# Altium schematic symbol library MCU_ST_STM32F3.SchLib: 126 symbols (part 3 of 3)
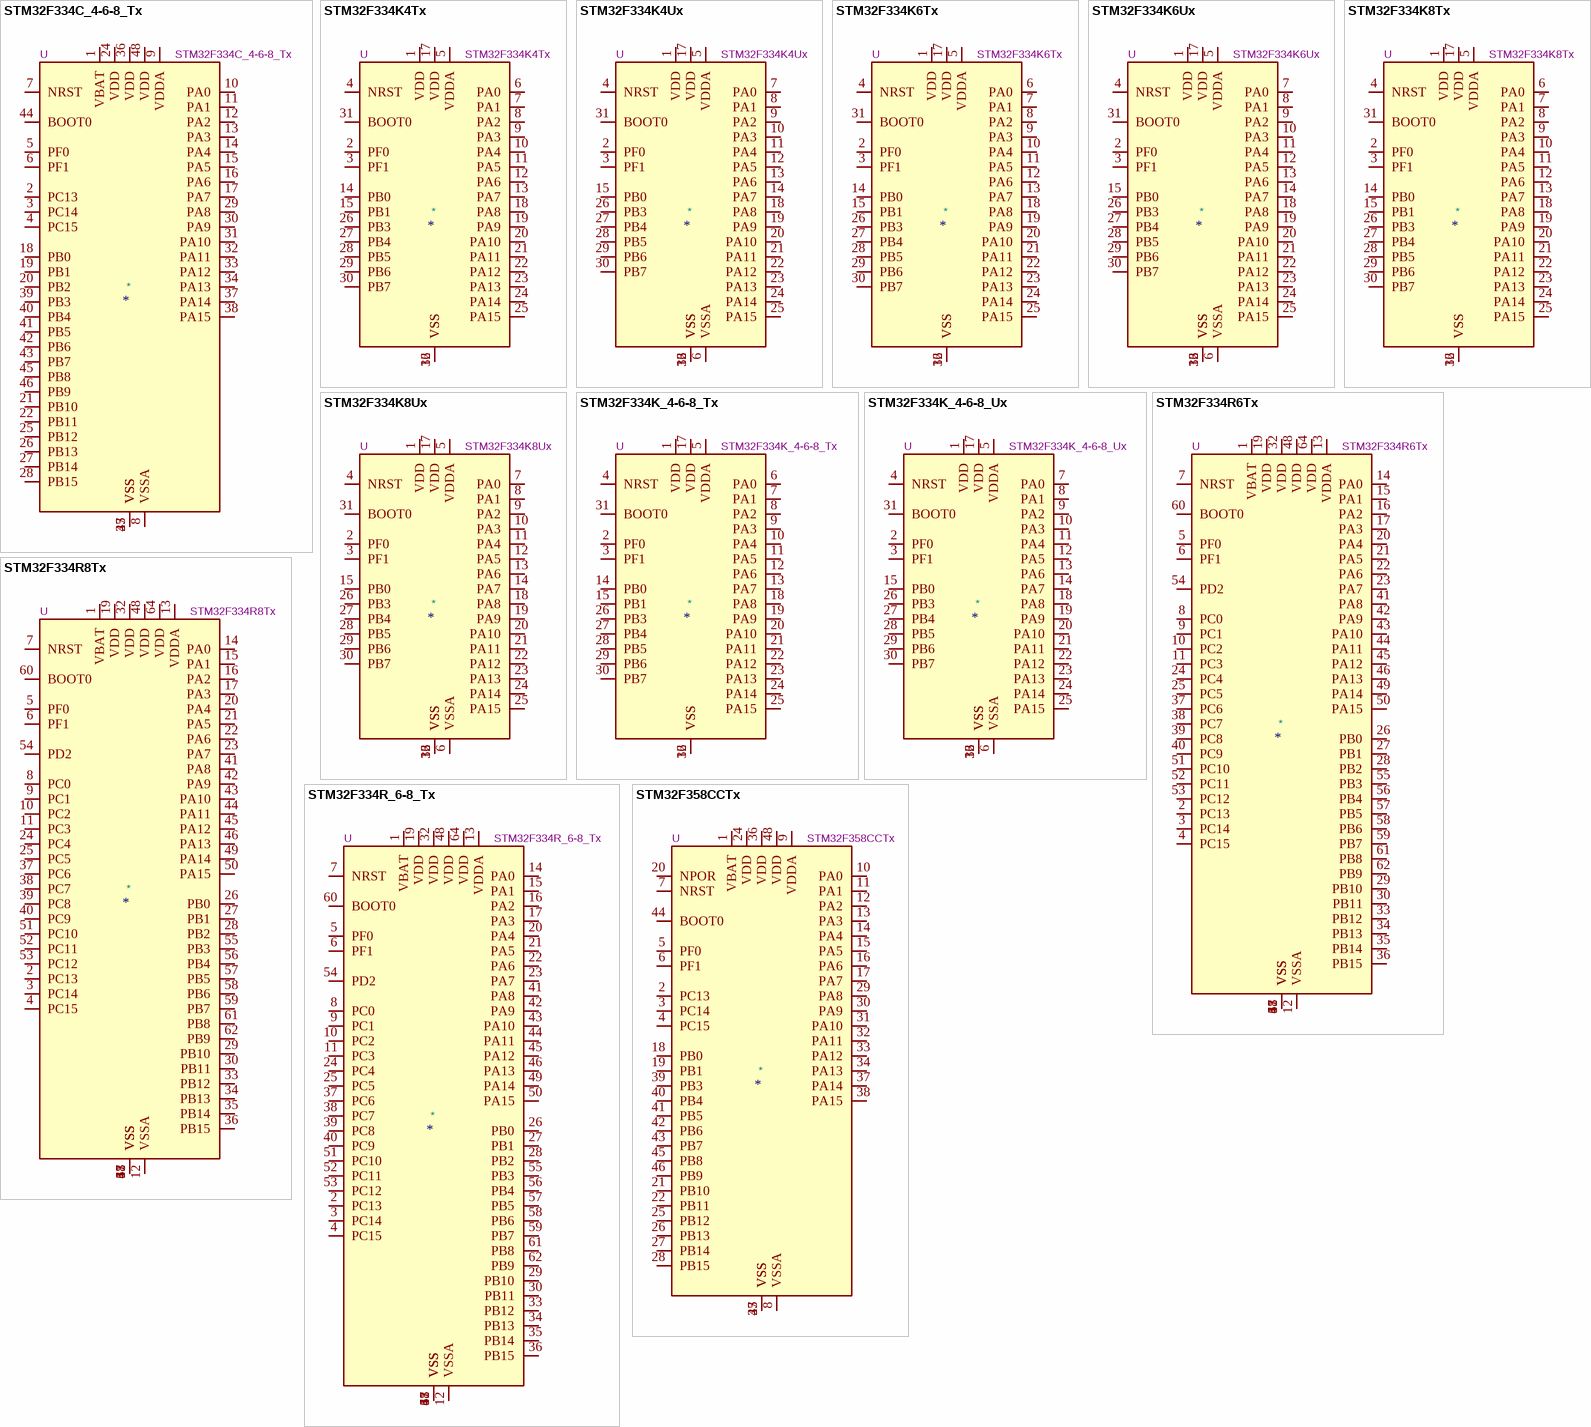
[diagram p17: symbols STM32F334C_4-6-8_Tx to STM32F358CCTx]

## STM32F334K8Ux
designator *  value STM32F334K8Ux  Reference: U
STMicroelectronics Arm Cortex-M4 MCU, 64KB flash, 16KB RAM, 72 MHz, 2.0-3.6V, 24 GPIO, UFQFPN32; ki_keywords: Arm Cortex-M4 STM32F3 STM32F334; ki_fp_filters: QFN*1EP*5x5mm*P0.5mm*; Footprint: Package_DFN_QFN:QFN-32-1EP_5x5mm_P0.5mm_EP3.45x3.45mm; Datasheet: https://www.st.com/resource/en/datasheet/stm32f334k8.pdf; Description_: STMicroelectronics Arm Cortex-M4 MCU, 64KB flash, 16KB RAM, 72 MHz, 2.0-3.6V, 24 GPIO, UFQFPN32
pins: 1 VDD, 2 PF0, 3 PF1, 4 NRST, 5 VDDA, 6 VSSA, 7 PA0, 8 PA1, 9 PA2, 10 PA3, 11 PA4, 12 PA5, 13 PA6, 14 PA7, 15 PB0, 16 VSS, 17 VDD, 18 PA8, 19 PA9, 20 PA10, 21 PA11, 22 PA12, 23 PA13, 24 PA14, 25 PA15, 26 PB3, 27 PB4, 28 PB5, 29 PB6, 30 PB7, 31 BOOT0, 32 VSS, 33 VSS

## STM32F334K_4-6-8_Tx
designator *  value STM32F334K_4-6-8_Tx  Reference: U
STMicroelectronics Arm Cortex-M4 MCU, 16-64KB flash, 16KB RAM, 72 MHz, 2.0-3.6V, 25 GPIO, LQFP32; ki_keywords: Arm Cortex-M4 STM32F3 STM32F334; ki_fp_filters: LQFP*7x7mm*P0.8mm*; Footprint: Package_QFP:LQFP-32_7x7mm_P0.8mm; Datasheet: https://www.st.com/resource/en/datasheet/stm32f334k4.pdf; Description_: STMicroelectronics Arm Cortex-M4 MCU, 16-64KB flash, 16KB RAM, 72 MHz, 2.0-3.6V, 25 GPIO, LQFP32
pins: 1 VDD, 2 PF0, 3 PF1, 4 NRST, 5 VDDA, 6 PA0, 7 PA1, 8 PA2, 9 PA3, 10 PA4, 11 PA5, 12 PA6, 13 PA7, 14 PB0, 15 PB1, 16 VSS, 17 VDD, 18 PA8, 19 PA9, 20 PA10, 21 PA11, 22 PA12, 23 PA13, 24 PA14, 25 PA15, 26 PB3, 27 PB4, 28 PB5, 29 PB6, 30 PB7, 31 BOOT0, 32 VSS

## STM32F334K_4-6-8_Ux
designator *  value STM32F334K_4-6-8_Ux  Reference: U
STMicroelectronics Arm Cortex-M4 MCU, 16-64KB flash, 16KB RAM, 72 MHz, 2.0-3.6V, 24 GPIO, UFQFPN32; ki_keywords: Arm Cortex-M4 STM32F3 STM32F334; ki_fp_filters: QFN*1EP*5x5mm*P0.5mm*; Footprint: Package_DFN_QFN:QFN-32-1EP_5x5mm_P0.5mm_EP3.45x3.45mm; Datasheet: https://www.st.com/resource/en/datasheet/stm32f334k4.pdf; Description_: STMicroelectronics Arm Cortex-M4 MCU, 16-64KB flash, 16KB RAM, 72 MHz, 2.0-3.6V, 24 GPIO, UFQFPN32
pins: 1 VDD, 2 PF0, 3 PF1, 4 NRST, 5 VDDA, 6 VSSA, 7 PA0, 8 PA1, 9 PA2, 10 PA3, 11 PA4, 12 PA5, 13 PA6, 14 PA7, 15 PB0, 16 VSS, 17 VDD, 18 PA8, 19 PA9, 20 PA10, 21 PA11, 22 PA12, 23 PA13, 24 PA14, 25 PA15, 26 PB3, 27 PB4, 28 PB5, 29 PB6, 30 PB7, 31 BOOT0, 32 VSS, 33 VSS

## STM32F334R6Tx
designator *  value STM32F334R6Tx  Reference: U
STMicroelectronics Arm Cortex-M4 MCU, 32KB flash, 16KB RAM, 72 MHz, 2.0-3.6V, 51 GPIO, LQFP64; ki_keywords: Arm Cortex-M4 STM32F3 STM32F334; ki_fp_filters: LQFP*10x10mm*P0.5mm*; Footprint: Package_QFP:LQFP-64_10x10mm_P0.5mm; Datasheet: https://www.st.com/resource/en/datasheet/stm32f334r6.pdf; Description_: STMicroelectronics Arm Cortex-M4 MCU, 32KB flash, 16KB RAM, 72 MHz, 2.0-3.6V, 51 GPIO, LQFP64
pins: 1 VBAT, 2 PC13, 3 PC14, 4 PC15, 5 PF0, 6 PF1, 7 NRST, 8 PC0, 9 PC1, 10 PC2, 11 PC3, 12 VSSA, 13 VDDA, 14 PA0, 15 PA1, 16 PA2, 17 PA3, 18 VSS, 19 VDD, 20 PA4, 21 PA5, 22 PA6, 23 PA7, 24 PC4, 25 PC5, 26 PB0, 27 PB1, 28 PB2, 29 PB10, 30 PB11, 31 VSS, 32 VDD, 33 PB12, 34 PB13, 35 PB14, 36 PB15, 37 PC6, 38 PC7, 39 PC8, 40 PC9, 41 PA8, 42 PA9, 43 PA10, 44 PA11, 45 PA12, 46 PA13, 47 VSS, 48 VDD, 49 PA14, 50 PA15, 51 PC10, 52 PC11, 53 PC12, 54 PD2, 55 PB3, 56 PB4, 57 PB5, 58 PB6, 59 PB7, 60 BOOT0, 61 PB8, 62 PB9, 63 VSS, 64 VDD

## STM32F334R8Tx
designator *  value STM32F334R8Tx  Reference: U
STMicroelectronics Arm Cortex-M4 MCU, 64KB flash, 16KB RAM, 72 MHz, 2.0-3.6V, 51 GPIO, LQFP64; ki_keywords: Arm Cortex-M4 STM32F3 STM32F334; ki_fp_filters: LQFP*10x10mm*P0.5mm*; Footprint: Package_QFP:LQFP-64_10x10mm_P0.5mm; Datasheet: https://www.st.com/resource/en/datasheet/stm32f334r8.pdf; Description_: STMicroelectronics Arm Cortex-M4 MCU, 64KB flash, 16KB RAM, 72 MHz, 2.0-3.6V, 51 GPIO, LQFP64
pins: 1 VBAT, 2 PC13, 3 PC14, 4 PC15, 5 PF0, 6 PF1, 7 NRST, 8 PC0, 9 PC1, 10 PC2, 11 PC3, 12 VSSA, 13 VDDA, 14 PA0, 15 PA1, 16 PA2, 17 PA3, 18 VSS, 19 VDD, 20 PA4, 21 PA5, 22 PA6, 23 PA7, 24 PC4, 25 PC5, 26 PB0, 27 PB1, 28 PB2, 29 PB10, 30 PB11, 31 VSS, 32 VDD, 33 PB12, 34 PB13, 35 PB14, 36 PB15, 37 PC6, 38 PC7, 39 PC8, 40 PC9, 41 PA8, 42 PA9, 43 PA10, 44 PA11, 45 PA12, 46 PA13, 47 VSS, 48 VDD, 49 PA14, 50 PA15, 51 PC10, 52 PC11, 53 PC12, 54 PD2, 55 PB3, 56 PB4, 57 PB5, 58 PB6, 59 PB7, 60 BOOT0, 61 PB8, 62 PB9, 63 VSS, 64 VDD

## STM32F334R_6-8_Tx
designator *  value STM32F334R_6-8_Tx  Reference: U
STMicroelectronics Arm Cortex-M4 MCU, 32-64KB flash, 16KB RAM, 72 MHz, 2.0-3.6V, 51 GPIO, LQFP64; ki_keywords: Arm Cortex-M4 STM32F3 STM32F334; ki_fp_filters: LQFP*10x10mm*P0.5mm*; Footprint: Package_QFP:LQFP-64_10x10mm_P0.5mm; Datasheet: https://www.st.com/resource/en/datasheet/stm32f334r6.pdf; Description_: STMicroelectronics Arm Cortex-M4 MCU, 32-64KB flash, 16KB RAM, 72 MHz, 2.0-3.6V, 51 GPIO, LQFP64
pins: 1 VBAT, 2 PC13, 3 PC14, 4 PC15, 5 PF0, 6 PF1, 7 NRST, 8 PC0, 9 PC1, 10 PC2, 11 PC3, 12 VSSA, 13 VDDA, 14 PA0, 15 PA1, 16 PA2, 17 PA3, 18 VSS, 19 VDD, 20 PA4, 21 PA5, 22 PA6, 23 PA7, 24 PC4, 25 PC5, 26 PB0, 27 PB1, 28 PB2, 29 PB10, 30 PB11, 31 VSS, 32 VDD, 33 PB12, 34 PB13, 35 PB14, 36 PB15, 37 PC6, 38 PC7, 39 PC8, 40 PC9, 41 PA8, 42 PA9, 43 PA10, 44 PA11, 45 PA12, 46 PA13, 47 VSS, 48 VDD, 49 PA14, 50 PA15, 51 PC10, 52 PC11, 53 PC12, 54 PD2, 55 PB3, 56 PB4, 57 PB5, 58 PB6, 59 PB7, 60 BOOT0, 61 PB8, 62 PB9, 63 VSS, 64 VDD

## STM32F358CCTx
designator *  value STM32F358CCTx  Reference: U
STMicroelectronics Arm Cortex-M4 MCU, 256KB flash, 48KB RAM, 72 MHz, 1.65-1.95V, 36 GPIO, LQFP48; ki_keywords: Arm Cortex-M4 STM32F3 STM32F3x8; ki_fp_filters: LQFP*7x7mm*P0.5mm*; Footprint: Package_QFP:LQFP-48_7x7mm_P0.5mm; Datasheet: https://www.st.com/resource/en/datasheet/stm32f358cc.pdf; Description_: STMicroelectronics Arm Cortex-M4 MCU, 256KB flash, 48KB RAM, 72 MHz, 1.65-1.95V, 36 GPIO, LQFP48
pins: 1 VBAT, 2 PC13, 3 PC14, 4 PC15, 5 PF0, 6 PF1, 7 NRST, 8 VSSA, 9 VDDA, 10 PA0, 11 PA1, 12 PA2, 13 PA3, 14 PA4, 15 PA5, 16 PA6, 17 PA7, 18 PB0, 19 PB1, 20 NPOR, 21 PB10, 22 PB11, 23 VSS, 24 VDD, 25 PB12, 26 PB13, 27 PB14, 28 PB15, 29 PA8, 30 PA9, 31 PA10, 32 PA11, 33 PA12, 34 PA13, 35 VSS, 36 VDD, 37 PA14, 38 PA15, 39 PB3, 40 PB4, 41 PB5, 42 PB6, 43 PB7, 44 BOOT0, 45 PB8, 46 PB9, 47 VSS, 48 VDD

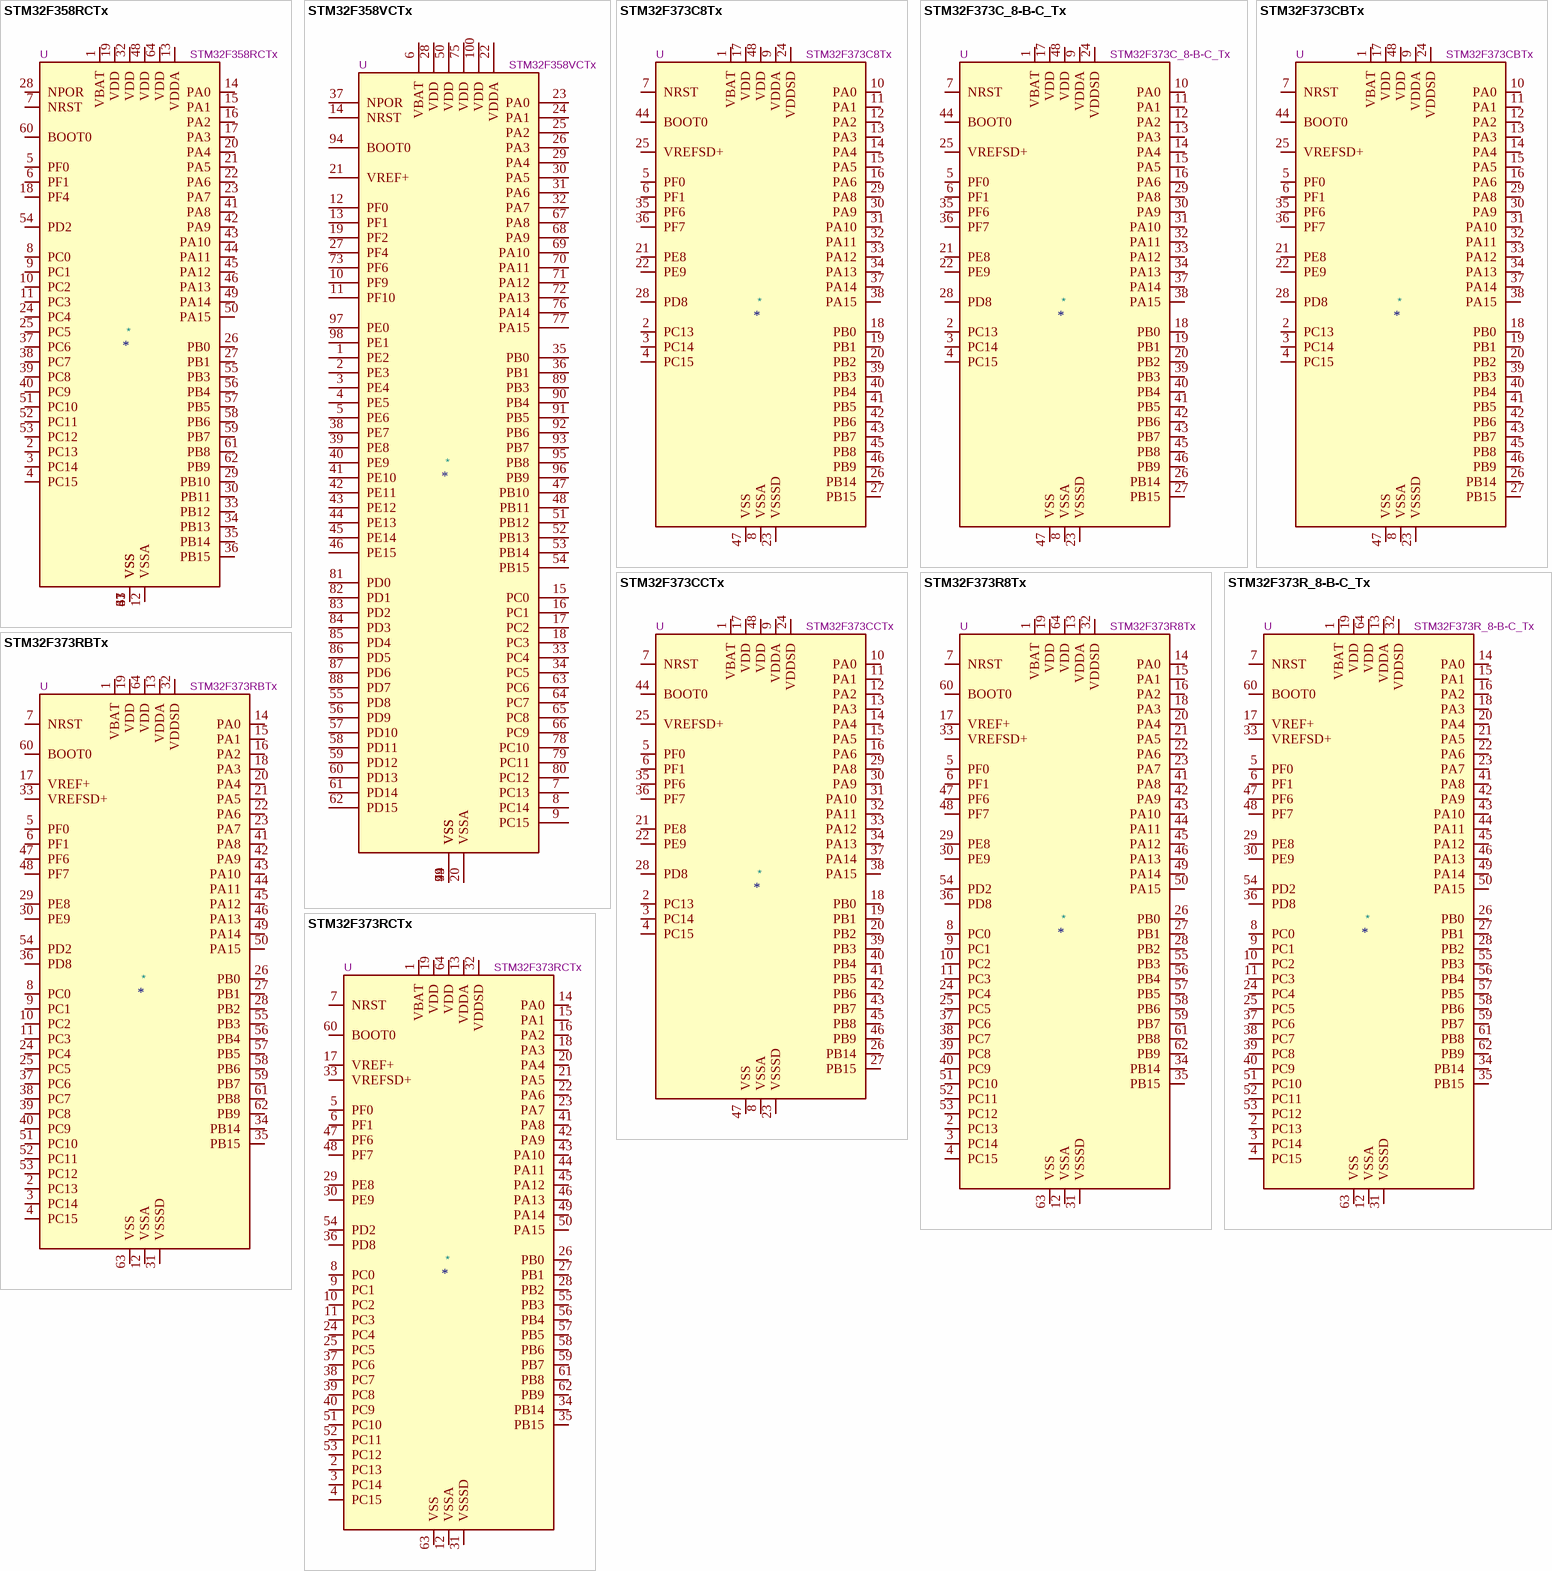
[diagram p12: symbols STM32F358RCTx to STM32F373RCTx]

## STM32F358RCTx
designator *  value STM32F358RCTx  Reference: U
STMicroelectronics Arm Cortex-M4 MCU, 256KB flash, 48KB RAM, 72 MHz, 1.65-1.95V, 51 GPIO, LQFP64; ki_keywords: Arm Cortex-M4 STM32F3 STM32F3x8; ki_fp_filters: LQFP*10x10mm*P0.5mm*; Footprint: Package_QFP:LQFP-64_10x10mm_P0.5mm; Datasheet: https://www.st.com/resource/en/datasheet/stm32f358rc.pdf; Description_: STMicroelectronics Arm Cortex-M4 MCU, 256KB flash, 48KB RAM, 72 MHz, 1.65-1.95V, 51 GPIO, LQFP64
pins: 1 VBAT, 2 PC13, 3 PC14, 4 PC15, 5 PF0, 6 PF1, 7 NRST, 8 PC0, 9 PC1, 10 PC2, 11 PC3, 12 VSSA, 13 VDDA, 14 PA0, 15 PA1, 16 PA2, 17 PA3, 18 PF4, 19 VDD, 20 PA4, 21 PA5, 22 PA6, 23 PA7, 24 PC4, 25 PC5, 26 PB0, 27 PB1, 28 NPOR, 29 PB10, 30 PB11, 31 VSS, 32 VDD, 33 PB12, 34 PB13, 35 PB14, 36 PB15, 37 PC6, 38 PC7, 39 PC8, 40 PC9, 41 PA8, 42 PA9, 43 PA10, 44 PA11, 45 PA12, 46 PA13, 47 VSS, 48 VDD, 49 PA14, 50 PA15, 51 PC10, 52 PC11, 53 PC12, 54 PD2, 55 PB3, 56 PB4, 57 PB5, 58 PB6, 59 PB7, 60 BOOT0, 61 PB8, 62 PB9, 63 VSS, 64 VDD

## STM32F358VCTx
designator *  value STM32F358VCTx  Reference: U
STMicroelectronics Arm Cortex-M4 MCU, 256KB flash, 48KB RAM, 72 MHz, 1.65-1.95V, 86 GPIO, LQFP100; ki_keywords: Arm Cortex-M4 STM32F3 STM32F3x8; ki_fp_filters: LQFP*14x14mm*P0.5mm*; Footprint: Package_QFP:LQFP-100_14x14mm_P0.5mm; Datasheet: https://www.st.com/resource/en/datasheet/stm32f358vc.pdf; Description_: STMicroelectronics Arm Cortex-M4 MCU, 256KB flash, 48KB RAM, 72 MHz, 1.65-1.95V, 86 GPIO, LQFP100
pins: 1 PE2, 2 PE3, 3 PE4, 4 PE5, 5 PE6, 6 VBAT, 7 PC13, 8 PC14, 9 PC15, 10 PF9, 11 PF10, 12 PF0, 13 PF1, 14 NRST, 15 PC0, 16 PC1, 17 PC2, 18 PC3, 19 PF2, 20 VSSA, 21 VREF+, 22 VDDA, 23 PA0, 24 PA1, 25 PA2, 26 PA3, 27 PF4, 28 VDD, 29 PA4, 30 PA5, 31 PA6, 32 PA7, 33 PC4, 34 PC5, 35 PB0, 36 PB1, 37 NPOR, 38 PE7, 39 PE8, 40 PE9, 41 PE10, 42 PE11, 43 PE12, 44 PE13, 45 PE14, 46 PE15, 47 PB10, 48 PB11, 49 VSS, 50 VDD, 51 PB12, 52 PB13, 53 PB14, 54 PB15, 55 PD8, 56 PD9, 57 PD10, 58 PD11, 59 PD12, 60 PD13, 61 PD14, 62 PD15, 63 PC6, 64 PC7, 65 PC8, 66 PC9, 67 PA8, 68 PA9, 69 PA10, 70 PA11, 71 PA12, 72 PA13, 73 PF6, 74 VSS, 75 VDD, 76 PA14, 77 PA15, 78 PC10, 79 PC11, 80 PC12, 81 PD0, 82 PD1, 83 PD2, 84 PD3, 85 PD4, 86 PD5, 87 PD6, 88 PD7, 89 PB3, 90 PB4, 91 PB5, 92 PB6, 93 PB7, 94 BOOT0, 95 PB8, 96 PB9, 97 PE0, 98 PE1, 99 VSS, 100 VDD

## STM32F373C8Tx
designator *  value STM32F373C8Tx  Reference: U
STMicroelectronics Arm Cortex-M4 MCU, 64KB flash, 16KB RAM, 72 MHz, 2.0-3.6V, 37 GPIO, LQFP48; ki_keywords: Arm Cortex-M4 STM32F3 STM32F373; ki_fp_filters: LQFP*7x7mm*P0.5mm*; Footprint: Package_QFP:LQFP-48_7x7mm_P0.5mm; Datasheet: https://www.st.com/resource/en/datasheet/stm32f373c8.pdf; Description_: STMicroelectronics Arm Cortex-M4 MCU, 64KB flash, 16KB RAM, 72 MHz, 2.0-3.6V, 37 GPIO, LQFP48
pins: 1 VBAT, 2 PC13, 3 PC14, 4 PC15, 5 PF0, 6 PF1, 7 NRST, 8 VSSA, 9 VDDA, 10 PA0, 11 PA1, 12 PA2, 13 PA3, 14 PA4, 15 PA5, 16 PA6, 17 VDD, 18 PB0, 19 PB1, 20 PB2, 21 PE8, 22 PE9, 23 VSSSD, 24 VDDSD, 25 VREFSD+, 26 PB14, 27 PB15, 28 PD8, 29 PA8, 30 PA9, 31 PA10, 32 PA11, 33 PA12, 34 PA13, 35 PF6, 36 PF7, 37 PA14, 38 PA15, 39 PB3, 40 PB4, 41 PB5, 42 PB6, 43 PB7, 44 BOOT0, 45 PB8, 46 PB9, 47 VSS, 48 VDD

## STM32F373C_8-B-C_Tx
designator *  value STM32F373C_8-B-C_Tx  Reference: U
STMicroelectronics Arm Cortex-M4 MCU, 64-256KB flash, 16-32KB RAM, 72 MHz, 2.0-3.6V, 37 GPIO, LQFP48; ki_keywords: Arm Cortex-M4 STM32F3 STM32F373; ki_fp_filters: LQFP*7x7mm*P0.5mm*; Footprint: Package_QFP:LQFP-48_7x7mm_P0.5mm; Datasheet: https://www.st.com/resource/en/datasheet/stm32f373c8.pdf; Description_: STMicroelectronics Arm Cortex-M4 MCU, 64-256KB flash, 16-32KB RAM, 72 MHz, 2.0-3.6V, 37 GPIO, LQFP48
pins: 1 VBAT, 2 PC13, 3 PC14, 4 PC15, 5 PF0, 6 PF1, 7 NRST, 8 VSSA, 9 VDDA, 10 PA0, 11 PA1, 12 PA2, 13 PA3, 14 PA4, 15 PA5, 16 PA6, 17 VDD, 18 PB0, 19 PB1, 20 PB2, 21 PE8, 22 PE9, 23 VSSSD, 24 VDDSD, 25 VREFSD+, 26 PB14, 27 PB15, 28 PD8, 29 PA8, 30 PA9, 31 PA10, 32 PA11, 33 PA12, 34 PA13, 35 PF6, 36 PF7, 37 PA14, 38 PA15, 39 PB3, 40 PB4, 41 PB5, 42 PB6, 43 PB7, 44 BOOT0, 45 PB8, 46 PB9, 47 VSS, 48 VDD

## STM32F373CBTx
designator *  value STM32F373CBTx  Reference: U
STMicroelectronics Arm Cortex-M4 MCU, 128KB flash, 24KB RAM, 72 MHz, 2.0-3.6V, 37 GPIO, LQFP48; ki_keywords: Arm Cortex-M4 STM32F3 STM32F373; ki_fp_filters: LQFP*7x7mm*P0.5mm*; Footprint: Package_QFP:LQFP-48_7x7mm_P0.5mm; Datasheet: https://www.st.com/resource/en/datasheet/stm32f373cb.pdf; Description_: STMicroelectronics Arm Cortex-M4 MCU, 128KB flash, 24KB RAM, 72 MHz, 2.0-3.6V, 37 GPIO, LQFP48
pins: 1 VBAT, 2 PC13, 3 PC14, 4 PC15, 5 PF0, 6 PF1, 7 NRST, 8 VSSA, 9 VDDA, 10 PA0, 11 PA1, 12 PA2, 13 PA3, 14 PA4, 15 PA5, 16 PA6, 17 VDD, 18 PB0, 19 PB1, 20 PB2, 21 PE8, 22 PE9, 23 VSSSD, 24 VDDSD, 25 VREFSD+, 26 PB14, 27 PB15, 28 PD8, 29 PA8, 30 PA9, 31 PA10, 32 PA11, 33 PA12, 34 PA13, 35 PF6, 36 PF7, 37 PA14, 38 PA15, 39 PB3, 40 PB4, 41 PB5, 42 PB6, 43 PB7, 44 BOOT0, 45 PB8, 46 PB9, 47 VSS, 48 VDD

## STM32F373CCTx
designator *  value STM32F373CCTx  Reference: U
STMicroelectronics Arm Cortex-M4 MCU, 256KB flash, 32KB RAM, 72 MHz, 2.0-3.6V, 37 GPIO, LQFP48; ki_keywords: Arm Cortex-M4 STM32F3 STM32F373; ki_fp_filters: LQFP*7x7mm*P0.5mm*; Footprint: Package_QFP:LQFP-48_7x7mm_P0.5mm; Datasheet: https://www.st.com/resource/en/datasheet/stm32f373cc.pdf; Description_: STMicroelectronics Arm Cortex-M4 MCU, 256KB flash, 32KB RAM, 72 MHz, 2.0-3.6V, 37 GPIO, LQFP48
pins: 1 VBAT, 2 PC13, 3 PC14, 4 PC15, 5 PF0, 6 PF1, 7 NRST, 8 VSSA, 9 VDDA, 10 PA0, 11 PA1, 12 PA2, 13 PA3, 14 PA4, 15 PA5, 16 PA6, 17 VDD, 18 PB0, 19 PB1, 20 PB2, 21 PE8, 22 PE9, 23 VSSSD, 24 VDDSD, 25 VREFSD+, 26 PB14, 27 PB15, 28 PD8, 29 PA8, 30 PA9, 31 PA10, 32 PA11, 33 PA12, 34 PA13, 35 PF6, 36 PF7, 37 PA14, 38 PA15, 39 PB3, 40 PB4, 41 PB5, 42 PB6, 43 PB7, 44 BOOT0, 45 PB8, 46 PB9, 47 VSS, 48 VDD

## STM32F373R8Tx
designator *  value STM32F373R8Tx  Reference: U
STMicroelectronics Arm Cortex-M4 MCU, 64KB flash, 16KB RAM, 72 MHz, 2.0-3.6V, 52 GPIO, LQFP64; ki_keywords: Arm Cortex-M4 STM32F3 STM32F373; ki_fp_filters: LQFP*10x10mm*P0.5mm*; Footprint: Package_QFP:LQFP-64_10x10mm_P0.5mm; Datasheet: https://www.st.com/resource/en/datasheet/stm32f373r8.pdf; Description_: STMicroelectronics Arm Cortex-M4 MCU, 64KB flash, 16KB RAM, 72 MHz, 2.0-3.6V, 52 GPIO, LQFP64
pins: 1 VBAT, 2 PC13, 3 PC14, 4 PC15, 5 PF0, 6 PF1, 7 NRST, 8 PC0, 9 PC1, 10 PC2, 11 PC3, 12 VSSA, 13 VDDA, 14 PA0, 15 PA1, 16 PA2, 17 VREF+, 18 PA3, 19 VDD, 20 PA4, 21 PA5, 22 PA6, 23 PA7, 24 PC4, 25 PC5, 26 PB0, 27 PB1, 28 PB2, 29 PE8, 30 PE9, 31 VSSSD, 32 VDDSD, 33 VREFSD+, 34 PB14, 35 PB15, 36 PD8, 37 PC6, 38 PC7, 39 PC8, 40 PC9, 41 PA8, 42 PA9, 43 PA10, 44 PA11, 45 PA12, 46 PA13, 47 PF6, 48 PF7, 49 PA14, 50 PA15, 51 PC10, 52 PC11, 53 PC12, 54 PD2, 55 PB3, 56 PB4, 57 PB5, 58 PB6, 59 PB7, 60 BOOT0, 61 PB8, 62 PB9, 63 VSS, 64 VDD

## STM32F373R_8-B-C_Tx
designator *  value STM32F373R_8-B-C_Tx  Reference: U
STMicroelectronics Arm Cortex-M4 MCU, 64-256KB flash, 16-32KB RAM, 72 MHz, 2.0-3.6V, 52 GPIO, LQFP64; ki_keywords: Arm Cortex-M4 STM32F3 STM32F373; ki_fp_filters: LQFP*10x10mm*P0.5mm*; Footprint: Package_QFP:LQFP-64_10x10mm_P0.5mm; Datasheet: https://www.st.com/resource/en/datasheet/stm32f373r8.pdf; Description_: STMicroelectronics Arm Cortex-M4 MCU, 64-256KB flash, 16-32KB RAM, 72 MHz, 2.0-3.6V, 52 GPIO, LQFP64
pins: 1 VBAT, 2 PC13, 3 PC14, 4 PC15, 5 PF0, 6 PF1, 7 NRST, 8 PC0, 9 PC1, 10 PC2, 11 PC3, 12 VSSA, 13 VDDA, 14 PA0, 15 PA1, 16 PA2, 17 VREF+, 18 PA3, 19 VDD, 20 PA4, 21 PA5, 22 PA6, 23 PA7, 24 PC4, 25 PC5, 26 PB0, 27 PB1, 28 PB2, 29 PE8, 30 PE9, 31 VSSSD, 32 VDDSD, 33 VREFSD+, 34 PB14, 35 PB15, 36 PD8, 37 PC6, 38 PC7, 39 PC8, 40 PC9, 41 PA8, 42 PA9, 43 PA10, 44 PA11, 45 PA12, 46 PA13, 47 PF6, 48 PF7, 49 PA14, 50 PA15, 51 PC10, 52 PC11, 53 PC12, 54 PD2, 55 PB3, 56 PB4, 57 PB5, 58 PB6, 59 PB7, 60 BOOT0, 61 PB8, 62 PB9, 63 VSS, 64 VDD

## STM32F373RBTx
designator *  value STM32F373RBTx  Reference: U
STMicroelectronics Arm Cortex-M4 MCU, 128KB flash, 24KB RAM, 72 MHz, 2.0-3.6V, 52 GPIO, LQFP64; ki_keywords: Arm Cortex-M4 STM32F3 STM32F373; ki_fp_filters: LQFP*10x10mm*P0.5mm*; Footprint: Package_QFP:LQFP-64_10x10mm_P0.5mm; Datasheet: https://www.st.com/resource/en/datasheet/stm32f373rb.pdf; Description_: STMicroelectronics Arm Cortex-M4 MCU, 128KB flash, 24KB RAM, 72 MHz, 2.0-3.6V, 52 GPIO, LQFP64
pins: 1 VBAT, 2 PC13, 3 PC14, 4 PC15, 5 PF0, 6 PF1, 7 NRST, 8 PC0, 9 PC1, 10 PC2, 11 PC3, 12 VSSA, 13 VDDA, 14 PA0, 15 PA1, 16 PA2, 17 VREF+, 18 PA3, 19 VDD, 20 PA4, 21 PA5, 22 PA6, 23 PA7, 24 PC4, 25 PC5, 26 PB0, 27 PB1, 28 PB2, 29 PE8, 30 PE9, 31 VSSSD, 32 VDDSD, 33 VREFSD+, 34 PB14, 35 PB15, 36 PD8, 37 PC6, 38 PC7, 39 PC8, 40 PC9, 41 PA8, 42 PA9, 43 PA10, 44 PA11, 45 PA12, 46 PA13, 47 PF6, 48 PF7, 49 PA14, 50 PA15, 51 PC10, 52 PC11, 53 PC12, 54 PD2, 55 PB3, 56 PB4, 57 PB5, 58 PB6, 59 PB7, 60 BOOT0, 61 PB8, 62 PB9, 63 VSS, 64 VDD

## STM32F373RCTx
designator *  value STM32F373RCTx  Reference: U
STMicroelectronics Arm Cortex-M4 MCU, 256KB flash, 32KB RAM, 72 MHz, 2.0-3.6V, 52 GPIO, LQFP64; ki_keywords: Arm Cortex-M4 STM32F3 STM32F373; ki_fp_filters: LQFP*10x10mm*P0.5mm*; Footprint: Package_QFP:LQFP-64_10x10mm_P0.5mm; Datasheet: https://www.st.com/resource/en/datasheet/stm32f373rc.pdf; Description_: STMicroelectronics Arm Cortex-M4 MCU, 256KB flash, 32KB RAM, 72 MHz, 2.0-3.6V, 52 GPIO, LQFP64
pins: 1 VBAT, 2 PC13, 3 PC14, 4 PC15, 5 PF0, 6 PF1, 7 NRST, 8 PC0, 9 PC1, 10 PC2, 11 PC3, 12 VSSA, 13 VDDA, 14 PA0, 15 PA1, 16 PA2, 17 VREF+, 18 PA3, 19 VDD, 20 PA4, 21 PA5, 22 PA6, 23 PA7, 24 PC4, 25 PC5, 26 PB0, 27 PB1, 28 PB2, 29 PE8, 30 PE9, 31 VSSSD, 32 VDDSD, 33 VREFSD+, 34 PB14, 35 PB15, 36 PD8, 37 PC6, 38 PC7, 39 PC8, 40 PC9, 41 PA8, 42 PA9, 43 PA10, 44 PA11, 45 PA12, 46 PA13, 47 PF6, 48 PF7, 49 PA14, 50 PA15, 51 PC10, 52 PC11, 53 PC12, 54 PD2, 55 PB3, 56 PB4, 57 PB5, 58 PB6, 59 PB7, 60 BOOT0, 61 PB8, 62 PB9, 63 VSS, 64 VDD

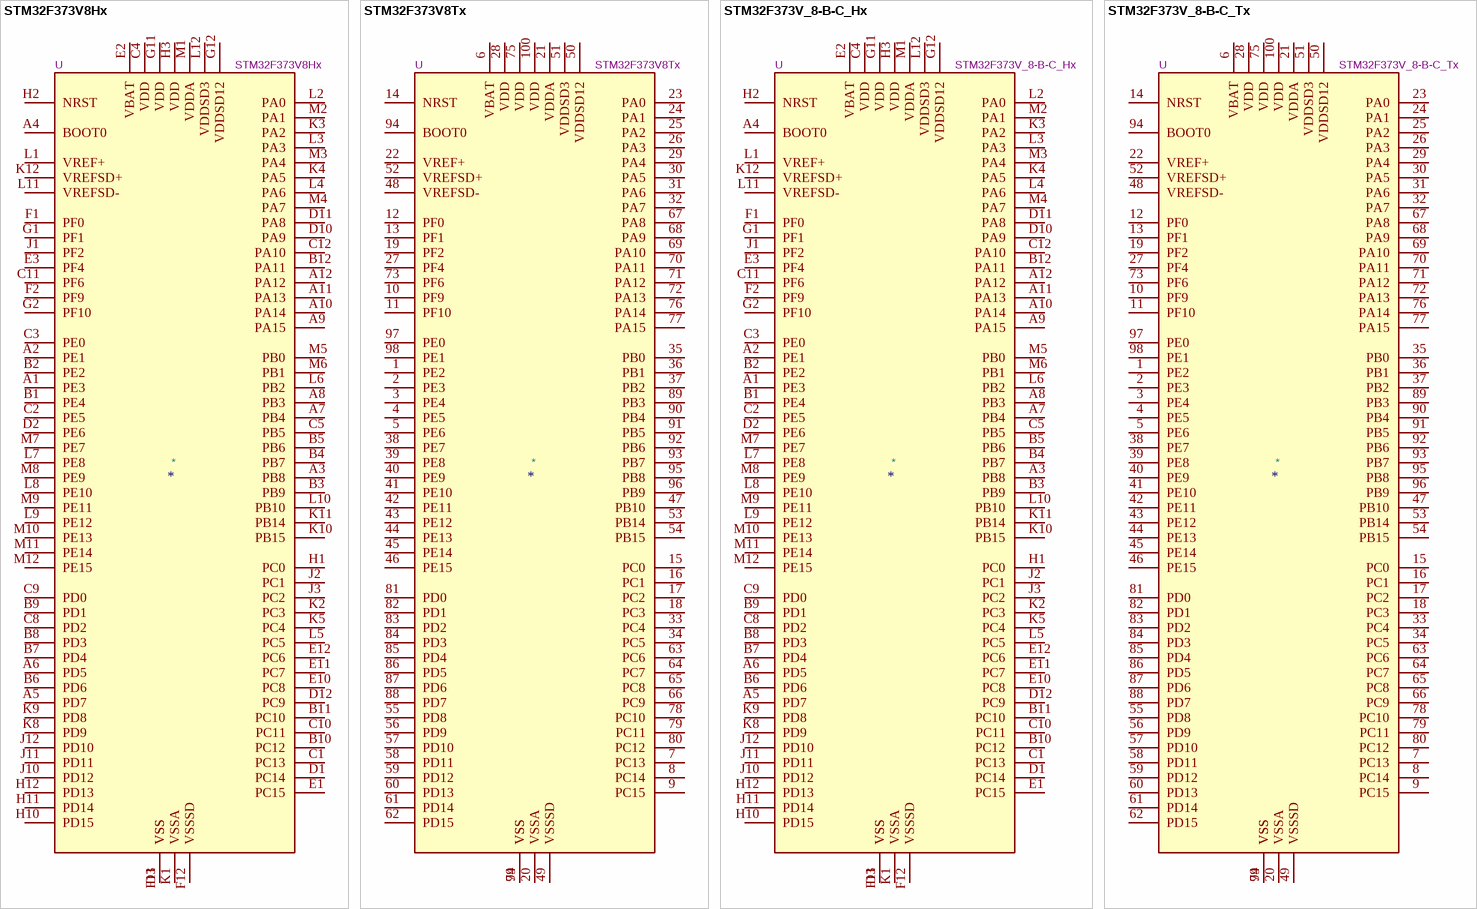
[diagram p13: symbols STM32F373V8Hx to STM32F373V_8-B-C_Tx]

## STM32F373V8Hx
designator *  value STM32F373V8Hx  Reference: U
STMicroelectronics Arm Cortex-M4 MCU, 64KB flash, 16KB RAM, 72 MHz, 2.0-3.6V, 84 GPIO, UFBGA100; ki_keywords: Arm Cortex-M4 STM32F3 STM32F373; ki_fp_filters: UFBGA*7x7mm*Layout12x12*P0.5mm*; Footprint: Package_BGA:UFBGA-100_7x7mm_Layout12x12_P0.5mm; Datasheet: https://www.st.com/resource/en/datasheet/stm32f373v8.pdf; Description_: STMicroelectronics Arm Cortex-M4 MCU, 64KB flash, 16KB RAM, 72 MHz, 2.0-3.6V, 84 GPIO, UFBGA100
pins: A1 PE3, A2 PE1, A3 PB8, A4 BOOT0, A5 PD7, A6 PD5, A7 PB4, A8 PB3, A9 PA15, A10 PA14, A11 PA13, A12 PA12, B1 PE4, B2 PE2, B3 PB9, B4 PB7, B5 PB6, B6 PD6, B7 PD4, B8 PD3, B9 PD1, B10 PC12, B11 PC10, B12 PA11, C1 PC13, C2 PE5, C3 PE0, C4 VDD, C5 PB5, C8 PD2, C9 PD0, C10 PC11, C11 PF6, C12 PA10, D1 PC14, D2 PE6, D3 VSS, D10 PA9, D11 PA8, D12 PC9, E1 PC15, E2 VBAT, E3 PF4, E10 PC8, E11 PC7, E12 PC6, F1 PF0, F2 PF9, F11 VSS, F12 VSSSD, G1 PF1, G2 PF10, G11 VDD, G12 VDDSD12, H1 PC0, H2 NRST, H3 VDD, H10 PD15, H11 PD14, H12 PD13, J1 PF2, J2 PC1, J3 PC2, J10 PD12, J11 PD11, J12 PD10, K1 VSSA, K2 PC3, K3 PA2, K4 PA5, K5 PC4, K8 PD9, K9 PD8, K10 PB15, K11 PB14, K12 VREFSD+, L1 VREF+, L2 PA0, L3 PA3, L4 PA6, L5 PC5, L6 PB2, L7 PE8, L8 PE10, L9 PE12, L10 PB10, L11 VREFSD-, L12 VDDSD3, M1 VDDA, M2 PA1, M3 PA4, M4 PA7, M5 PB0, M6 PB1, M7 PE7, M8 PE9, M9 PE11, M10 PE13, M11 PE14, M12 PE15

## STM32F373V8Tx
designator *  value STM32F373V8Tx  Reference: U
STMicroelectronics Arm Cortex-M4 MCU, 64KB flash, 16KB RAM, 72 MHz, 2.0-3.6V, 84 GPIO, LQFP100; ki_keywords: Arm Cortex-M4 STM32F3 STM32F373; ki_fp_filters: LQFP*14x14mm*P0.5mm*; Footprint: Package_QFP:LQFP-100_14x14mm_P0.5mm; Datasheet: https://www.st.com/resource/en/datasheet/stm32f373v8.pdf; Description_: STMicroelectronics Arm Cortex-M4 MCU, 64KB flash, 16KB RAM, 72 MHz, 2.0-3.6V, 84 GPIO, LQFP100
pins: 1 PE2, 2 PE3, 3 PE4, 4 PE5, 5 PE6, 6 VBAT, 7 PC13, 8 PC14, 9 PC15, 10 PF9, 11 PF10, 12 PF0, 13 PF1, 14 NRST, 15 PC0, 16 PC1, 17 PC2, 18 PC3, 19 PF2, 20 VSSA, 21 VDDA, 22 VREF+, 23 PA0, 24 PA1, 25 PA2, 26 PA3, 27 PF4, 28 VDD, 29 PA4, 30 PA5, 31 PA6, 32 PA7, 33 PC4, 34 PC5, 35 PB0, 36 PB1, 37 PB2, 38 PE7, 39 PE8, 40 PE9, 41 PE10, 42 PE11, 43 PE12, 44 PE13, 45 PE14, 46 PE15, 47 PB10, 48 VREFSD-, 49 VSSSD, 50 VDDSD12, 51 VDDSD3, 52 VREFSD+, 53 PB14, 54 PB15, 55 PD8, 56 PD9, 57 PD10, 58 PD11, 59 PD12, 60 PD13, 61 PD14, 62 PD15, 63 PC6, 64 PC7, 65 PC8, 66 PC9, 67 PA8, 68 PA9, 69 PA10, 70 PA11, 71 PA12, 72 PA13, 73 PF6, 74 VSS, 75 VDD, 76 PA14, 77 PA15, 78 PC10, 79 PC11, 80 PC12, 81 PD0, 82 PD1, 83 PD2, 84 PD3, 85 PD4, 86 PD5, 87 PD6, 88 PD7, 89 PB3, 90 PB4, 91 PB5, 92 PB6, 93 PB7, 94 BOOT0, 95 PB8, 96 PB9, 97 PE0, 98 PE1, 99 VSS, 100 VDD

## STM32F373V_8-B-C_Hx
designator *  value STM32F373V_8-B-C_Hx  Reference: U
STMicroelectronics Arm Cortex-M4 MCU, 64-256KB flash, 16-32KB RAM, 72 MHz, 2.0-3.6V, 84 GPIO, UFBGA100; ki_keywords: Arm Cortex-M4 STM32F3 STM32F373; ki_fp_filters: UFBGA*7x7mm*Layout12x12*P0.5mm*; Footprint: Package_BGA:UFBGA-100_7x7mm_Layout12x12_P0.5mm; Datasheet: https://www.st.com/resource/en/datasheet/stm32f373v8.pdf; Description_: STMicroelectronics Arm Cortex-M4 MCU, 64-256KB flash, 16-32KB RAM, 72 MHz, 2.0-3.6V, 84 GPIO, UFBGA100
pins: A1 PE3, A2 PE1, A3 PB8, A4 BOOT0, A5 PD7, A6 PD5, A7 PB4, A8 PB3, A9 PA15, A10 PA14, A11 PA13, A12 PA12, B1 PE4, B2 PE2, B3 PB9, B4 PB7, B5 PB6, B6 PD6, B7 PD4, B8 PD3, B9 PD1, B10 PC12, B11 PC10, B12 PA11, C1 PC13, C2 PE5, C3 PE0, C4 VDD, C5 PB5, C8 PD2, C9 PD0, C10 PC11, C11 PF6, C12 PA10, D1 PC14, D2 PE6, D3 VSS, D10 PA9, D11 PA8, D12 PC9, E1 PC15, E2 VBAT, E3 PF4, E10 PC8, E11 PC7, E12 PC6, F1 PF0, F2 PF9, F11 VSS, F12 VSSSD, G1 PF1, G2 PF10, G11 VDD, G12 VDDSD12, H1 PC0, H2 NRST, H3 VDD, H10 PD15, H11 PD14, H12 PD13, J1 PF2, J2 PC1, J3 PC2, J10 PD12, J11 PD11, J12 PD10, K1 VSSA, K2 PC3, K3 PA2, K4 PA5, K5 PC4, K8 PD9, K9 PD8, K10 PB15, K11 PB14, K12 VREFSD+, L1 VREF+, L2 PA0, L3 PA3, L4 PA6, L5 PC5, L6 PB2, L7 PE8, L8 PE10, L9 PE12, L10 PB10, L11 VREFSD-, L12 VDDSD3, M1 VDDA, M2 PA1, M3 PA4, M4 PA7, M5 PB0, M6 PB1, M7 PE7, M8 PE9, M9 PE11, M10 PE13, M11 PE14, M12 PE15

## STM32F373V_8-B-C_Tx
designator *  value STM32F373V_8-B-C_Tx  Reference: U
STMicroelectronics Arm Cortex-M4 MCU, 64-256KB flash, 16-32KB RAM, 72 MHz, 2.0-3.6V, 84 GPIO, LQFP100; ki_keywords: Arm Cortex-M4 STM32F3 STM32F373; ki_fp_filters: LQFP*14x14mm*P0.5mm*; Footprint: Package_QFP:LQFP-100_14x14mm_P0.5mm; Datasheet: https://www.st.com/resource/en/datasheet/stm32f373v8.pdf; Description_: STMicroelectronics Arm Cortex-M4 MCU, 64-256KB flash, 16-32KB RAM, 72 MHz, 2.0-3.6V, 84 GPIO, LQFP100
pins: 1 PE2, 2 PE3, 3 PE4, 4 PE5, 5 PE6, 6 VBAT, 7 PC13, 8 PC14, 9 PC15, 10 PF9, 11 PF10, 12 PF0, 13 PF1, 14 NRST, 15 PC0, 16 PC1, 17 PC2, 18 PC3, 19 PF2, 20 VSSA, 21 VDDA, 22 VREF+, 23 PA0, 24 PA1, 25 PA2, 26 PA3, 27 PF4, 28 VDD, 29 PA4, 30 PA5, 31 PA6, 32 PA7, 33 PC4, 34 PC5, 35 PB0, 36 PB1, 37 PB2, 38 PE7, 39 PE8, 40 PE9, 41 PE10, 42 PE11, 43 PE12, 44 PE13, 45 PE14, 46 PE15, 47 PB10, 48 VREFSD-, 49 VSSSD, 50 VDDSD12, 51 VDDSD3, 52 VREFSD+, 53 PB14, 54 PB15, 55 PD8, 56 PD9, 57 PD10, 58 PD11, 59 PD12, 60 PD13, 61 PD14, 62 PD15, 63 PC6, 64 PC7, 65 PC8, 66 PC9, 67 PA8, 68 PA9, 69 PA10, 70 PA11, 71 PA12, 72 PA13, 73 PF6, 74 VSS, 75 VDD, 76 PA14, 77 PA15, 78 PC10, 79 PC11, 80 PC12, 81 PD0, 82 PD1, 83 PD2, 84 PD3, 85 PD4, 86 PD5, 87 PD6, 88 PD7, 89 PB3, 90 PB4, 91 PB5, 92 PB6, 93 PB7, 94 BOOT0, 95 PB8, 96 PB9, 97 PE0, 98 PE1, 99 VSS, 100 VDD

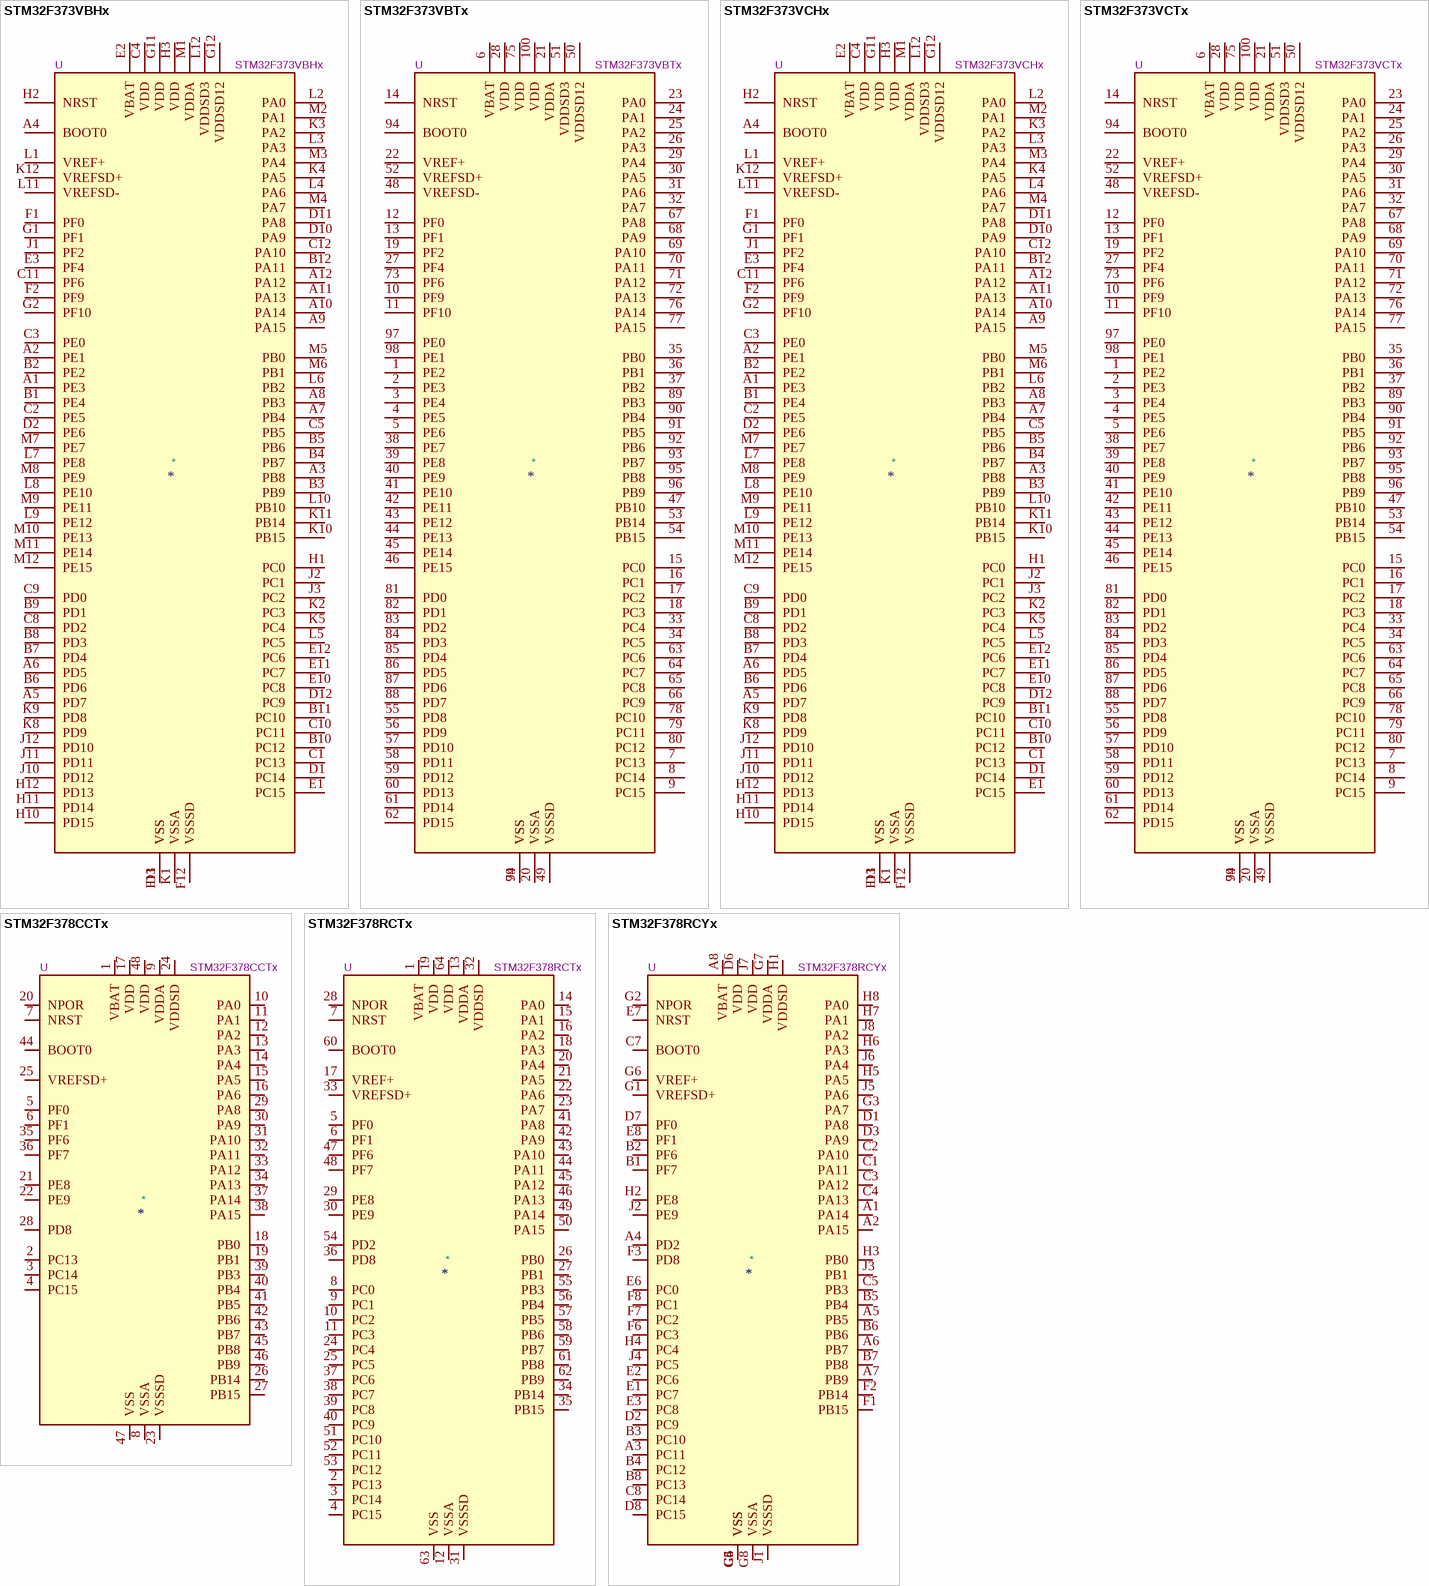
[diagram p14: symbols STM32F373VBHx to STM32F378RCYx]

## STM32F373VBHx
designator *  value STM32F373VBHx  Reference: U
STMicroelectronics Arm Cortex-M4 MCU, 128KB flash, 24KB RAM, 72 MHz, 2.0-3.6V, 84 GPIO, UFBGA100; ki_keywords: Arm Cortex-M4 STM32F3 STM32F373; ki_fp_filters: UFBGA*7x7mm*Layout12x12*P0.5mm*; Footprint: Package_BGA:UFBGA-100_7x7mm_Layout12x12_P0.5mm; Datasheet: https://www.st.com/resource/en/datasheet/stm32f373vb.pdf; Description_: STMicroelectronics Arm Cortex-M4 MCU, 128KB flash, 24KB RAM, 72 MHz, 2.0-3.6V, 84 GPIO, UFBGA100
pins: A1 PE3, A2 PE1, A3 PB8, A4 BOOT0, A5 PD7, A6 PD5, A7 PB4, A8 PB3, A9 PA15, A10 PA14, A11 PA13, A12 PA12, B1 PE4, B2 PE2, B3 PB9, B4 PB7, B5 PB6, B6 PD6, B7 PD4, B8 PD3, B9 PD1, B10 PC12, B11 PC10, B12 PA11, C1 PC13, C2 PE5, C3 PE0, C4 VDD, C5 PB5, C8 PD2, C9 PD0, C10 PC11, C11 PF6, C12 PA10, D1 PC14, D2 PE6, D3 VSS, D10 PA9, D11 PA8, D12 PC9, E1 PC15, E2 VBAT, E3 PF4, E10 PC8, E11 PC7, E12 PC6, F1 PF0, F2 PF9, F11 VSS, F12 VSSSD, G1 PF1, G2 PF10, G11 VDD, G12 VDDSD12, H1 PC0, H2 NRST, H3 VDD, H10 PD15, H11 PD14, H12 PD13, J1 PF2, J2 PC1, J3 PC2, J10 PD12, J11 PD11, J12 PD10, K1 VSSA, K2 PC3, K3 PA2, K4 PA5, K5 PC4, K8 PD9, K9 PD8, K10 PB15, K11 PB14, K12 VREFSD+, L1 VREF+, L2 PA0, L3 PA3, L4 PA6, L5 PC5, L6 PB2, L7 PE8, L8 PE10, L9 PE12, L10 PB10, L11 VREFSD-, L12 VDDSD3, M1 VDDA, M2 PA1, M3 PA4, M4 PA7, M5 PB0, M6 PB1, M7 PE7, M8 PE9, M9 PE11, M10 PE13, M11 PE14, M12 PE15

## STM32F373VBTx
designator *  value STM32F373VBTx  Reference: U
STMicroelectronics Arm Cortex-M4 MCU, 128KB flash, 24KB RAM, 72 MHz, 2.0-3.6V, 84 GPIO, LQFP100; ki_keywords: Arm Cortex-M4 STM32F3 STM32F373; ki_fp_filters: LQFP*14x14mm*P0.5mm*; Footprint: Package_QFP:LQFP-100_14x14mm_P0.5mm; Datasheet: https://www.st.com/resource/en/datasheet/stm32f373vb.pdf; Description_: STMicroelectronics Arm Cortex-M4 MCU, 128KB flash, 24KB RAM, 72 MHz, 2.0-3.6V, 84 GPIO, LQFP100
pins: 1 PE2, 2 PE3, 3 PE4, 4 PE5, 5 PE6, 6 VBAT, 7 PC13, 8 PC14, 9 PC15, 10 PF9, 11 PF10, 12 PF0, 13 PF1, 14 NRST, 15 PC0, 16 PC1, 17 PC2, 18 PC3, 19 PF2, 20 VSSA, 21 VDDA, 22 VREF+, 23 PA0, 24 PA1, 25 PA2, 26 PA3, 27 PF4, 28 VDD, 29 PA4, 30 PA5, 31 PA6, 32 PA7, 33 PC4, 34 PC5, 35 PB0, 36 PB1, 37 PB2, 38 PE7, 39 PE8, 40 PE9, 41 PE10, 42 PE11, 43 PE12, 44 PE13, 45 PE14, 46 PE15, 47 PB10, 48 VREFSD-, 49 VSSSD, 50 VDDSD12, 51 VDDSD3, 52 VREFSD+, 53 PB14, 54 PB15, 55 PD8, 56 PD9, 57 PD10, 58 PD11, 59 PD12, 60 PD13, 61 PD14, 62 PD15, 63 PC6, 64 PC7, 65 PC8, 66 PC9, 67 PA8, 68 PA9, 69 PA10, 70 PA11, 71 PA12, 72 PA13, 73 PF6, 74 VSS, 75 VDD, 76 PA14, 77 PA15, 78 PC10, 79 PC11, 80 PC12, 81 PD0, 82 PD1, 83 PD2, 84 PD3, 85 PD4, 86 PD5, 87 PD6, 88 PD7, 89 PB3, 90 PB4, 91 PB5, 92 PB6, 93 PB7, 94 BOOT0, 95 PB8, 96 PB9, 97 PE0, 98 PE1, 99 VSS, 100 VDD

## STM32F373VCHx
designator *  value STM32F373VCHx  Reference: U
STMicroelectronics Arm Cortex-M4 MCU, 256KB flash, 32KB RAM, 72 MHz, 2.0-3.6V, 84 GPIO, UFBGA100; ki_keywords: Arm Cortex-M4 STM32F3 STM32F373; ki_fp_filters: UFBGA*7x7mm*Layout12x12*P0.5mm*; Footprint: Package_BGA:UFBGA-100_7x7mm_Layout12x12_P0.5mm; Datasheet: https://www.st.com/resource/en/datasheet/stm32f373vc.pdf; Description_: STMicroelectronics Arm Cortex-M4 MCU, 256KB flash, 32KB RAM, 72 MHz, 2.0-3.6V, 84 GPIO, UFBGA100
pins: A1 PE3, A2 PE1, A3 PB8, A4 BOOT0, A5 PD7, A6 PD5, A7 PB4, A8 PB3, A9 PA15, A10 PA14, A11 PA13, A12 PA12, B1 PE4, B2 PE2, B3 PB9, B4 PB7, B5 PB6, B6 PD6, B7 PD4, B8 PD3, B9 PD1, B10 PC12, B11 PC10, B12 PA11, C1 PC13, C2 PE5, C3 PE0, C4 VDD, C5 PB5, C8 PD2, C9 PD0, C10 PC11, C11 PF6, C12 PA10, D1 PC14, D2 PE6, D3 VSS, D10 PA9, D11 PA8, D12 PC9, E1 PC15, E2 VBAT, E3 PF4, E10 PC8, E11 PC7, E12 PC6, F1 PF0, F2 PF9, F11 VSS, F12 VSSSD, G1 PF1, G2 PF10, G11 VDD, G12 VDDSD12, H1 PC0, H2 NRST, H3 VDD, H10 PD15, H11 PD14, H12 PD13, J1 PF2, J2 PC1, J3 PC2, J10 PD12, J11 PD11, J12 PD10, K1 VSSA, K2 PC3, K3 PA2, K4 PA5, K5 PC4, K8 PD9, K9 PD8, K10 PB15, K11 PB14, K12 VREFSD+, L1 VREF+, L2 PA0, L3 PA3, L4 PA6, L5 PC5, L6 PB2, L7 PE8, L8 PE10, L9 PE12, L10 PB10, L11 VREFSD-, L12 VDDSD3, M1 VDDA, M2 PA1, M3 PA4, M4 PA7, M5 PB0, M6 PB1, M7 PE7, M8 PE9, M9 PE11, M10 PE13, M11 PE14, M12 PE15

## STM32F373VCTx
designator *  value STM32F373VCTx  Reference: U
STMicroelectronics Arm Cortex-M4 MCU, 256KB flash, 32KB RAM, 72 MHz, 2.0-3.6V, 84 GPIO, LQFP100; ki_keywords: Arm Cortex-M4 STM32F3 STM32F373; ki_fp_filters: LQFP*14x14mm*P0.5mm*; Footprint: Package_QFP:LQFP-100_14x14mm_P0.5mm; Datasheet: https://www.st.com/resource/en/datasheet/stm32f373vc.pdf; Description_: STMicroelectronics Arm Cortex-M4 MCU, 256KB flash, 32KB RAM, 72 MHz, 2.0-3.6V, 84 GPIO, LQFP100
pins: 1 PE2, 2 PE3, 3 PE4, 4 PE5, 5 PE6, 6 VBAT, 7 PC13, 8 PC14, 9 PC15, 10 PF9, 11 PF10, 12 PF0, 13 PF1, 14 NRST, 15 PC0, 16 PC1, 17 PC2, 18 PC3, 19 PF2, 20 VSSA, 21 VDDA, 22 VREF+, 23 PA0, 24 PA1, 25 PA2, 26 PA3, 27 PF4, 28 VDD, 29 PA4, 30 PA5, 31 PA6, 32 PA7, 33 PC4, 34 PC5, 35 PB0, 36 PB1, 37 PB2, 38 PE7, 39 PE8, 40 PE9, 41 PE10, 42 PE11, 43 PE12, 44 PE13, 45 PE14, 46 PE15, 47 PB10, 48 VREFSD-, 49 VSSSD, 50 VDDSD12, 51 VDDSD3, 52 VREFSD+, 53 PB14, 54 PB15, 55 PD8, 56 PD9, 57 PD10, 58 PD11, 59 PD12, 60 PD13, 61 PD14, 62 PD15, 63 PC6, 64 PC7, 65 PC8, 66 PC9, 67 PA8, 68 PA9, 69 PA10, 70 PA11, 71 PA12, 72 PA13, 73 PF6, 74 VSS, 75 VDD, 76 PA14, 77 PA15, 78 PC10, 79 PC11, 80 PC12, 81 PD0, 82 PD1, 83 PD2, 84 PD3, 85 PD4, 86 PD5, 87 PD6, 88 PD7, 89 PB3, 90 PB4, 91 PB5, 92 PB6, 93 PB7, 94 BOOT0, 95 PB8, 96 PB9, 97 PE0, 98 PE1, 99 VSS, 100 VDD

## STM32F378CCTx
designator *  value STM32F378CCTx  Reference: U
STMicroelectronics Arm Cortex-M4 MCU, 256KB flash, 32KB RAM, 72 MHz, 1.65-1.95V, 36 GPIO, LQFP48; ki_keywords: Arm Cortex-M4 STM32F3 STM32F3x8; ki_fp_filters: LQFP*7x7mm*P0.5mm*; Footprint: Package_QFP:LQFP-48_7x7mm_P0.5mm; Datasheet: https://www.st.com/resource/en/datasheet/stm32f378cc.pdf; Description_: STMicroelectronics Arm Cortex-M4 MCU, 256KB flash, 32KB RAM, 72 MHz, 1.65-1.95V, 36 GPIO, LQFP48
pins: 1 VBAT, 2 PC13, 3 PC14, 4 PC15, 5 PF0, 6 PF1, 7 NRST, 8 VSSA, 9 VDDA, 10 PA0, 11 PA1, 12 PA2, 13 PA3, 14 PA4, 15 PA5, 16 PA6, 17 VDD, 18 PB0, 19 PB1, 20 NPOR, 21 PE8, 22 PE9, 23 VSSSD, 24 VDDSD, 25 VREFSD+, 26 PB14, 27 PB15, 28 PD8, 29 PA8, 30 PA9, 31 PA10, 32 PA11, 33 PA12, 34 PA13, 35 PF6, 36 PF7, 37 PA14, 38 PA15, 39 PB3, 40 PB4, 41 PB5, 42 PB6, 43 PB7, 44 BOOT0, 45 PB8, 46 PB9, 47 VSS, 48 VDD

## STM32F378RCTx
designator *  value STM32F378RCTx  Reference: U
STMicroelectronics Arm Cortex-M4 MCU, 256KB flash, 32KB RAM, 72 MHz, 1.65-1.95V, 51 GPIO, LQFP64; ki_keywords: Arm Cortex-M4 STM32F3 STM32F3x8; ki_fp_filters: LQFP*10x10mm*P0.5mm*; Footprint: Package_QFP:LQFP-64_10x10mm_P0.5mm; Datasheet: https://www.st.com/resource/en/datasheet/stm32f378rc.pdf; Description_: STMicroelectronics Arm Cortex-M4 MCU, 256KB flash, 32KB RAM, 72 MHz, 1.65-1.95V, 51 GPIO, LQFP64
pins: 1 VBAT, 2 PC13, 3 PC14, 4 PC15, 5 PF0, 6 PF1, 7 NRST, 8 PC0, 9 PC1, 10 PC2, 11 PC3, 12 VSSA, 13 VDDA, 14 PA0, 15 PA1, 16 PA2, 17 VREF+, 18 PA3, 19 VDD, 20 PA4, 21 PA5, 22 PA6, 23 PA7, 24 PC4, 25 PC5, 26 PB0, 27 PB1, 28 NPOR, 29 PE8, 30 PE9, 31 VSSSD, 32 VDDSD, 33 VREFSD+, 34 PB14, 35 PB15, 36 PD8, 37 PC6, 38 PC7, 39 PC8, 40 PC9, 41 PA8, 42 PA9, 43 PA10, 44 PA11, 45 PA12, 46 PA13, 47 PF6, 48 PF7, 49 PA14, 50 PA15, 51 PC10, 52 PC11, 53 PC12, 54 PD2, 55 PB3, 56 PB4, 57 PB5, 58 PB6, 59 PB7, 60 BOOT0, 61 PB8, 62 PB9, 63 VSS, 64 VDD

## STM32F378RCYx
designator *  value STM32F378RCYx  Reference: U
STMicroelectronics Arm Cortex-M4 MCU, 256KB flash, 32KB RAM, 72 MHz, 1.65-1.95V, 51 GPIO, WLCSP66; ki_keywords: Arm Cortex-M4 STM32F3 STM32F3x8; ki_fp_filters: ST*WLCSP*Die432*; Footprint: Package_CSP:ST_WLCSP-66_Die432; Datasheet: https://www.st.com/resource/en/datasheet/stm32f378rc.pdf; Description_: STMicroelectronics Arm Cortex-M4 MCU, 256KB flash, 32KB RAM, 72 MHz, 1.65-1.95V, 51 GPIO, WLCSP66
pins: A1 PA14, A2 PA15, A3 PC11, A4 PD2, A5 PB5, A6 PB7, A7 PB9, A8 VBAT, B1 PF7, B2 PF6, B3 PC10, B4 PC12, B5 PB4, B6 PB6, B7 PB8, B8 PC13, C1 PA11, C2 PA10, C3 PA12, C4 PA13, C5 PB3, C6 VSS, C7 BOOT0, C8 PC14, D1 PA8, D2 PC9, D3 PA9, D6 VDD, D7 PF0, D8 PC15, E1 PC7, E2 PC6, E3 PC8, E6 PC0, E7 NRST, E8 PF1, F1 PB15, F2 PB14, F3 PD8, F6 PC3, F7 PC2, F8 PC1, G1 VREFSD+, G2 NPOR, G3 PA7, G4 VSS, G5 VSS, G6 VREF+, G7 VDDA, G8 VSSA, H1 VDDSD, H2 PE8, H3 PB0, H4 PC4, H5 PA5, H6 PA3, H7 PA1, H8 PA0, J1 VSSSD, J2 PE9, J3 PB1, J4 PC5, J5 PA6, J6 PA4, J7 VDD, J8 PA2

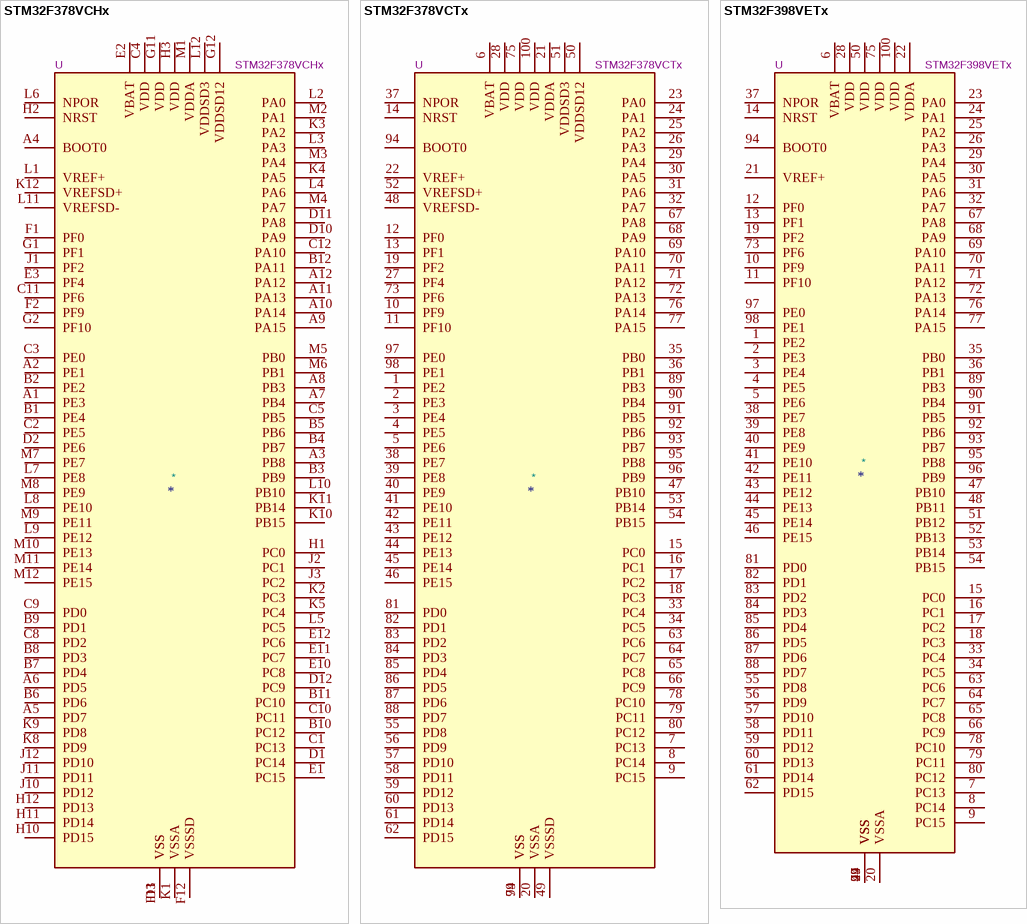
[diagram p15: symbols STM32F378VCHx to STM32F398VETx]

## STM32F378VCHx
designator *  value STM32F378VCHx  Reference: U
STMicroelectronics Arm Cortex-M4 MCU, 256KB flash, 32KB RAM, 72 MHz, 1.65-1.95V, 83 GPIO, UFBGA100; ki_keywords: Arm Cortex-M4 STM32F3 STM32F3x8; ki_fp_filters: UFBGA*7x7mm*Layout12x12*P0.5mm*; Footprint: Package_BGA:UFBGA-100_7x7mm_Layout12x12_P0.5mm; Datasheet: https://www.st.com/resource/en/datasheet/stm32f378vc.pdf; Description_: STMicroelectronics Arm Cortex-M4 MCU, 256KB flash, 32KB RAM, 72 MHz, 1.65-1.95V, 83 GPIO, UFBGA100
pins: A1 PE3, A2 PE1, A3 PB8, A4 BOOT0, A5 PD7, A6 PD5, A7 PB4, A8 PB3, A9 PA15, A10 PA14, A11 PA13, A12 PA12, B1 PE4, B2 PE2, B3 PB9, B4 PB7, B5 PB6, B6 PD6, B7 PD4, B8 PD3, B9 PD1, B10 PC12, B11 PC10, B12 PA11, C1 PC13, C2 PE5, C3 PE0, C4 VDD, C5 PB5, C8 PD2, C9 PD0, C10 PC11, C11 PF6, C12 PA10, D1 PC14, D2 PE6, D3 VSS, D10 PA9, D11 PA8, D12 PC9, E1 PC15, E2 VBAT, E3 PF4, E10 PC8, E11 PC7, E12 PC6, F1 PF0, F2 PF9, F11 VSS, F12 VSSSD, G1 PF1, G2 PF10, G11 VDD, G12 VDDSD12, H1 PC0, H2 NRST, H3 VDD, H10 PD15, H11 PD14, H12 PD13, J1 PF2, J2 PC1, J3 PC2, J10 PD12, J11 PD11, J12 PD10, K1 VSSA, K2 PC3, K3 PA2, K4 PA5, K5 PC4, K8 PD9, K9 PD8, K10 PB15, K11 PB14, K12 VREFSD+, L1 VREF+, L2 PA0, L3 PA3, L4 PA6, L5 PC5, L6 NPOR, L7 PE8, L8 PE10, L9 PE12, L10 PB10, L11 VREFSD-, L12 VDDSD3, M1 VDDA, M2 PA1, M3 PA4, M4 PA7, M5 PB0, M6 PB1, M7 PE7, M8 PE9, M9 PE11, M10 PE13, M11 PE14, M12 PE15

## STM32F378VCTx
designator *  value STM32F378VCTx  Reference: U
STMicroelectronics Arm Cortex-M4 MCU, 256KB flash, 32KB RAM, 72 MHz, 1.65-1.95V, 83 GPIO, LQFP100; ki_keywords: Arm Cortex-M4 STM32F3 STM32F3x8; ki_fp_filters: LQFP*14x14mm*P0.5mm*; Footprint: Package_QFP:LQFP-100_14x14mm_P0.5mm; Datasheet: https://www.st.com/resource/en/datasheet/stm32f378vc.pdf; Description_: STMicroelectronics Arm Cortex-M4 MCU, 256KB flash, 32KB RAM, 72 MHz, 1.65-1.95V, 83 GPIO, LQFP100
pins: 1 PE2, 2 PE3, 3 PE4, 4 PE5, 5 PE6, 6 VBAT, 7 PC13, 8 PC14, 9 PC15, 10 PF9, 11 PF10, 12 PF0, 13 PF1, 14 NRST, 15 PC0, 16 PC1, 17 PC2, 18 PC3, 19 PF2, 20 VSSA, 21 VDDA, 22 VREF+, 23 PA0, 24 PA1, 25 PA2, 26 PA3, 27 PF4, 28 VDD, 29 PA4, 30 PA5, 31 PA6, 32 PA7, 33 PC4, 34 PC5, 35 PB0, 36 PB1, 37 NPOR, 38 PE7, 39 PE8, 40 PE9, 41 PE10, 42 PE11, 43 PE12, 44 PE13, 45 PE14, 46 PE15, 47 PB10, 48 VREFSD-, 49 VSSSD, 50 VDDSD12, 51 VDDSD3, 52 VREFSD+, 53 PB14, 54 PB15, 55 PD8, 56 PD9, 57 PD10, 58 PD11, 59 PD12, 60 PD13, 61 PD14, 62 PD15, 63 PC6, 64 PC7, 65 PC8, 66 PC9, 67 PA8, 68 PA9, 69 PA10, 70 PA11, 71 PA12, 72 PA13, 73 PF6, 74 VSS, 75 VDD, 76 PA14, 77 PA15, 78 PC10, 79 PC11, 80 PC12, 81 PD0, 82 PD1, 83 PD2, 84 PD3, 85 PD4, 86 PD5, 87 PD6, 88 PD7, 89 PB3, 90 PB4, 91 PB5, 92 PB6, 93 PB7, 94 BOOT0, 95 PB8, 96 PB9, 97 PE0, 98 PE1, 99 VSS, 100 VDD

## STM32F398VETx
designator *  value STM32F398VETx  Reference: U
STMicroelectronics Arm Cortex-M4 MCU, 512KB flash, 80KB RAM, 72 MHz, 1.65-1.95V, 85 GPIO, LQFP100; ki_keywords: Arm Cortex-M4 STM32F3 STM32F3x8; ki_fp_filters: LQFP*14x14mm*P0.5mm*; Footprint: Package_QFP:LQFP-100_14x14mm_P0.5mm; Datasheet: https://www.st.com/resource/en/datasheet/stm32f398ve.pdf; Description_: STMicroelectronics Arm Cortex-M4 MCU, 512KB flash, 80KB RAM, 72 MHz, 1.65-1.95V, 85 GPIO, LQFP100
pins: 1 PE2, 2 PE3, 3 PE4, 4 PE5, 5 PE6, 6 VBAT, 7 PC13, 8 PC14, 9 PC15, 10 PF9, 11 PF10, 12 PF0, 13 PF1, 14 NRST, 15 PC0, 16 PC1, 17 PC2, 18 PC3, 19 PF2, 20 VSSA, 21 VREF+, 22 VDDA, 23 PA0, 24 PA1, 25 PA2, 26 PA3, 27 VSS, 28 VDD, 29 PA4, 30 PA5, 31 PA6, 32 PA7, 33 PC4, 34 PC5, 35 PB0, 36 PB1, 37 NPOR, 38 PE7, 39 PE8, 40 PE9, 41 PE10, 42 PE11, 43 PE12, 44 PE13, 45 PE14, 46 PE15, 47 PB10, 48 PB11, 49 VSS, 50 VDD, 51 PB12, 52 PB13, 53 PB14, 54 PB15, 55 PD8, 56 PD9, 57 PD10, 58 PD11, 59 PD12, 60 PD13, 61 PD14, 62 PD15, 63 PC6, 64 PC7, 65 PC8, 66 PC9, 67 PA8, 68 PA9, 69 PA10, 70 PA11, 71 PA12, 72 PA13, 73 PF6, 74 VSS, 75 VDD, 76 PA14, 77 PA15, 78 PC10, 79 PC11, 80 PC12, 81 PD0, 82 PD1, 83 PD2, 84 PD3, 85 PD4, 86 PD5, 87 PD6, 88 PD7, 89 PB3, 90 PB4, 91 PB5, 92 PB6, 93 PB7, 94 BOOT0, 95 PB8, 96 PB9, 97 PE0, 98 PE1, 99 VSS, 100 VDD